# Altium schematic symbol library niceCircuits.SchLib: 19 symbols
Pins are listed as number, name and electrical type; pins without a type are passive.

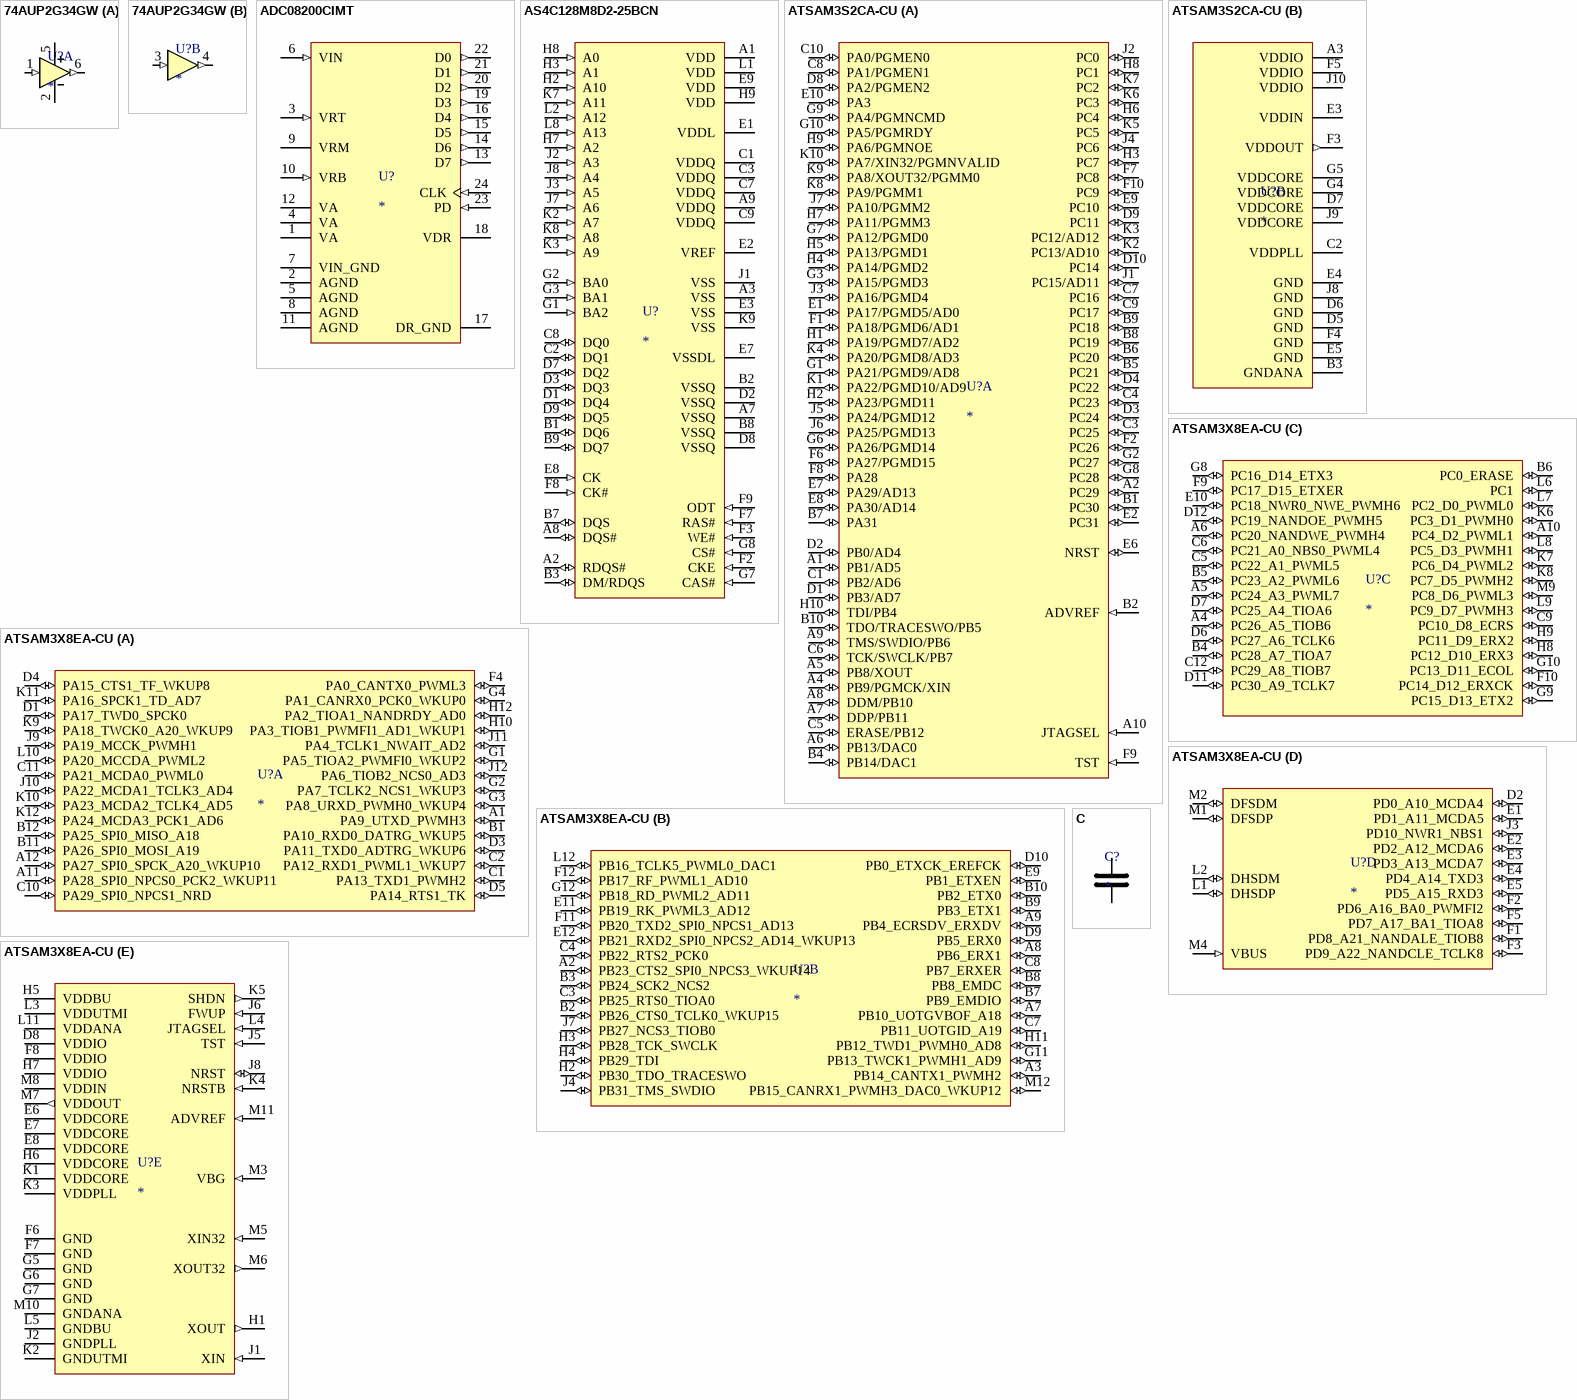
[diagram p0: symbols 74AUP2G34GW to C]

## 74AUP2G34GW
designator U?
Low-power dual buffer; Manufacturer 1: NXP; Manufacturer Part Number 1: 74AUP2G34GW; Supplier 1: Farnell; Supplier Part Number 1: 2164722
footprint SOT363_N (SO363, 6-Leads, Body 2.2x2.2mm (max), Pitch 0.65mm, IPC Medium Density)
part A pins: 1 1A (in), 2 GND (power), 5 VCC (power), 6 1Y (out)
part B pins: 3 2A (in), 4 2Y (out)

## ADC08200CIMT
designator U?
footprint National_TSSOP24_N (TSOP, 24-Leads, Body 7.9x4.5mm (max), Pitch 0.65mm, IPC Medium Density)
pins: 1 VA (power), 2 AGND (power), 3 VRT (in), 4 VA (power), 5 AGND (power), 6 VIN (in), 7 VIN_GND (power), 8 AGND (power), 9 VRM, 10 VRB (in), 11 AGND (power), 12 VA (power), 13 D7 (out), 14 D6 (out), 15 D5 (out), 16 D4 (out), 17 DR_GND (power), 18 VDR (power), 19 D3 (out), 20 D2 (out), 21 D1 (out), 22 D0 (out), 23 PD (in), 24 CLK (in)

## AS4C128M8D2-25BCN
designator U?
footprint Alliance_FBGA60 (BGA, 60-Leads, Body 8.00x10.00mmx1.20mm, Pitch 0.80mm)
pins: A1 VDD (power), A2 RDQS# (io), A3 VSS (power), A7 VSSQ (power), A8 DQS# (io), A9 VDDQ (power), B1 DQ6 (io), B2 VSSQ (power), B3 DM/RDQS (io), B7 DQS (io), B8 VSSQ (power), B9 DQ7 (io), C1 VDDQ (power), C2 DQ1 (io), C3 VDDQ (power), C7 VDDQ (power), C8 DQ0 (io), C9 VDDQ (power), D1 DQ4 (io), D2 VSSQ (power), D3 DQ3 (io), D7 DQ2 (io), D8 VSSQ (power), D9 DQ5 (io), E1 VDDL (power), E2 VREF (power), E3 VSS (power), E7 VSSDL (power), E8 CK (in), E9 VDD (power), F2 CKE (in), F3 WE# (in), F7 RAS# (in), F8 CK# (in), F9 ODT (in), G1 BA2 (in), G2 BA0 (in), G3 BA1 (in), G7 CAS# (in), G8 CS# (in), H2 A10 (in), H3 A1 (in), H7 A2 (in), H8 A0 (in), H9 VDD (power), J1 VSS (power), J2 A3 (in), J3 A5 (in), J7 A6 (in), J8 A4 (in), K2 A7 (in), K3 A9 (in), K7 A11 (in), K8 A8 (in), K9 VSS (power), L1 VDD (power), L2 A12 (in), L8 A13 (in)

## ATSAM3S2CA-CU
designator U?
part A pins: A1 PB1/AD5 (io), A2 PC29 (io), A4 PB9/PGMCK/XIN (io), A5 PB8/XOUT (io), A6 PB13/DAC0 (io), A7 DDP/PB11 (io), A8 DDM/PB10 (io), A9 TMS/SWDIO/PB6 (io), A10 JTAGSEL (in), B1 PC30 (io), B2 ADVREF (in), B4 PB14/DAC1 (io), B5 PC21 (io), B6 PC20 (io), B7 PA31 (io), B8 PC19 (io), B9 PC18 (io), B10 TDO/TRACESWO/PB5 (io), C1 PB2/AD6 (io), C3 PC25 (io), C4 PC23 (io), C5 ERASE/PB12 (io), C6 TCK/SWCLK/PB7 (io), C7 PC16 (io), C8 PA1/PGMEN1 (io), C9 PC17 (io), C10 PA0/PGMEN0 (io), D1 PB3/AD7 (io), D2 PB0/AD4 (io), D3 PC24 (io), D4 PC22 (io), D8 PA2/PGMEN2 (io), D9 PC11 (io), D10 PC14 (io), E1 PA17/PGMD5/AD0 (io), E2 PC31 (io), E6 NRST (io), E7 PA29/AD13 (io), E8 PA30/AD14 (io), E9 PC10 (io), E10 PA3 (io), F1 PA18/PGMD6/AD1 (io), F2 PC26 (io), F6 PA27/PGMD15 (io), F7 PC8 (io), F8 PA28 (io), F9 TST (in), F10 PC9 (io), G1 PA21/PGMD9/AD8 (io), G2 PC27 (io), G3 PA15/PGMD3 (io), G6 PA26/PGMD14 (io), G7 PA12/PGMD0 (io), G8 PC28 (io), G9 PA4/PGMNCMD (io), G10 PA5/PGMRDY (io), H1 PA19/PGMD7/AD2 (io), H2 PA23/PGMD11 (io), H3 PC7 (io), H4 PA14/PGMD2 (io), H5 PA13/PGMD1 (io), H6 PC4 (io), H7 PA11/PGMM3 (io), H8 PC1 (io), H9 PA6/PGMNOE (io), H10 TDI/PB4 (io), J1 PC15/AD11 (io), J2 PC0 (io), J3 PA16/PGMD4 (io), J4 PC6 (io), J5 PA24/PGMD12 (io), J6 PA25/PGMD13 (io), J7 PA10/PGMM2 (io), K1 PA22/PGMD10/AD9 (io), K2 PC13/AD10 (io), K3 PC12/AD12 (io), K4 PA20/PGMD8/AD3 (io), K5 PC5 (io), K6 PC3 (io), K7 PC2 (io), K8 PA9/PGMM1 (io), K9 PA8/XOUT32/PGMM0 (io), K10 PA7/XIN32/PGMNVALID (io)
part B pins: A3 VDDIO (power), B3 GNDANA (power), C2 VDDPLL (power), D5 GND (power), D6 GND (power), D7 VDDCORE (power), E3 VDDIN (power), E4 GND (power), E5 GND (power), F3 VDDOUT (out), F4 GND (power), F5 VDDIO (power), G4 VDDCORE (power), G5 VDDCORE (power), J8 GND (power), J9 VDDCORE (power), J10 VDDIO (power)

## ATSAM3X8EA-CU
designator U?
footprint Atmel_LFBGA144_M (BGA, 144-Leads, Body 10.0x10.0mm,  Pitch 0.80mm)
part A pins: A1 PA9_UTXD_PWMH3 (io), A11 PA28_SPI0_NPCS0_PCK2_WKUP11 (io), A12 PA27_SPI0_SPCK_A20_WKUP10 (io), B1 PA10_RXD0_DATRG_WKUP5 (io), B11 PA26_SPI0_MOSI_A19 (io), B12 PA25_SPI0_MISO_A18 (io), C1 PA13_TXD1_PWMH2 (io), C2 PA12_RXD1_PWML1_WKUP7 (io), C10 PA29_SPI0_NPCS1_NRD (io), C11 PA21_MCDA0_PWML0 (io), D1 PA17_TWD0_SPCK0 (io), D3 PA11_TXD0_ADTRG_WKUP6 (io), D4 PA15_CTS1_TF_WKUP8 (io), D5 PA14_RTS1_TK (io), F4 PA0_CANTX0_PWML3 (io), G1 PA5_TIOA2_PWMFI0_WKUP2 (io), G2 PA7_TCLK2_NCS1_WKUP3 (io), G3 PA8_URXD_PWMH0_WKUP4 (io), G4 PA1_CANRX0_PCK0_WKUP0 (io), H10 PA3_TIOB1_PWMFI1_AD1_WKUP1 (io), H12 PA2_TIOA1_NANDRDY_AD0 (io), J9 PA19_MCCK_PWMH1 (io), J10 PA22_MCDA1_TCLK3_AD4 (io), J11 PA4_TCLK1_NWAIT_AD2 (io), J12 PA6_TIOB2_NCS0_AD3 (io), K9 PA18_TWCK0_A20_WKUP9 (io), K10 PA23_MCDA2_TCLK4_AD5 (io), K11 PA16_SPCK1_TD_AD7 (io), K12 PA24_MCDA3_PCK1_AD6 (io), L10 PA20_MCCDA_PWML2 (io)
part B pins: A2 PB23_CTS2_SPI0_NPCS3_WKUP14 (io), A3 PB14_CANTX1_PWMH2 (io), A7 PB10_UOTGVBOF_A18 (io), A8 PB6_ERX1 (io), A9 PB4_ECRSDV_ERXDV (io), B2 PB26_CTS0_TCLK0_WKUP15 (io), B3 PB24_SCK2_NCS2 (io), B7 PB9_EMDIO (io), B8 PB8_EMDC (io), B9 PB3_ETX1 (io), B10 PB2_ETX0 (io), C3 PB25_RTS0_TIOA0 (io), C4 PB22_RTS2_PCK0 (io), C7 PB11_UOTGID_A19 (io), C8 PB7_ERXER (io), D9 PB5_ERX0 (io), D10 PB0_ETXCK_EREFCK (io), E9 PB1_ETXEN (io), E11 PB19_RK_PWML3_AD12 (io), E12 PB21_RXD2_SPI0_NPCS2_AD14_WKUP13 (io), F11 PB20_TXD2_SPI0_NPCS1_AD13 (io), F12 PB17_RF_PWML1_AD10 (io), G11 PB13_TWCK1_PWMH1_AD9 (io), G12 PB18_RD_PWML2_AD11 (io), H2 PB30_TDO_TRACESWO (io), H3 PB28_TCK_SWCLK (io), H4 PB29_TDI (io), H11 PB12_TWD1_PWMH0_AD8 (io), J4 PB31_TMS_SWDIO (io), J7 PB27_NCS3_TIOB0 (io), L12 PB16_TCLK5_PWML0_DAC1 (io), M12 PB15_CANRX1_PWMH3_DAC0_WKUP12 (io)
part C pins: A4 PC26_A5_TIOB6 (io), A5 PC24_A3_PWML7 (io), A6 PC20_NANDWE_PWMH4 (io), A10 PC4_D2_PWML1 (io), B4 PC28_A7_TIOA7 (io), B5 PC23_A2_PWML6 (io), B6 PC0_ERASE (io), C5 PC22_A1_PWML5 (io), C6 PC21_A0_NBS0_PWML4 (io), C9 PC10_D8_ECRS (io), C12 PC29_A8_TIOB7 (io), D6 PC27_A6_TCLK6 (io), D7 PC25_A4_TIOA6 (io), D11 PC30_A9_TCLK7 (io), D12 PC19_NANDOE_PWMH5 (io), E10 PC18_NWR0_NWE_PWMH6 (io), F9 PC17_D15_ETXER (io), F10 PC14_D12_ERXCK (io), G8 PC16_D14_ETX3 (io), G9 PC15_D13_ETX2 (io), G10 PC13_D11_ECOL (io), H8 PC12_D10_ERX3 (io), H9 PC11_D9_ERX2 (io), K6 PC3_D1_PWMH0 (io), K7 PC6_D4_PWML2 (io), K8 PC7_D5_PWMH2 (io), L6 PC1 (io), L7 PC2_D0_PWML0 (io), L8 PC5_D3_PWMH1 (io), L9 PC9_D7_PWMH3 (io), M9 PC8_D6_PWML3 (io)
part D pins: D2 PD0_A10_MCDA4 (io), E1 PD1_A11_MCDA5 (io), E2 PD2_A12_MCDA6 (io), E3 PD3_A13_MCDA7 (io), E4 PD4_A14_TXD3 (io), E5 PD5_A15_RXD3 (io), F1 PD8_A21_NANDALE_TIOB8 (io), F2 PD6_A16_BA0_PWMFI2 (io), F3 PD9_A22_NANDCLE_TCLK8 (io), F5 PD7_A17_BA1_TIOA8 (io), J3 PD10_NWR1_NBS1 (io), L1 DHSDP (io), L2 DHSDM (io), M1 DFSDP (io), M2 DFSDM (io), M4 VBUS (in)
part E pins: D8 VDDIO (power), E6 VDDCORE (power), E7 VDDCORE (power), E8 VDDCORE (power), F6 GND (power), F7 GND (power), F8 VDDIO (power), G5 GND (power), G6 GND (power), G7 GND (power), H1 XOUT (out), H5 VDDBU (power), H6 VDDCORE (power), H7 VDDIO (power), J1 XIN (in), J2 GNDPLL (power), J5 TST (in), J6 FWUP (in), J8 NRST (io), K1 VDDCORE (power), K2 GNDUTMI (power), K3 VDDPLL (power), K4 NRSTB (in), K5 SHDN (out), L3 VDDUTMI (power), L4 JTAGSEL (in), L5 GNDBU (power), L11 VDDANA (power), M3 VBG (in), M5 XIN32 (in), M6 XOUT32 (out), M7 VDDOUT (out), M8 VDDIN (power), M10 GNDANA (power), M11 ADVREF (in)

## C
designator C?
footprint C0402_L (Chip Capacitor, 2-Leads, Body 1.00x0.50mm, IPC High Density)
footprint C0402_M (Chip Capacitor, 2-Leads, Body 1.00x0.50mm, IPC Low Density)
footprint C0402_N (Chip Capacitor, 2-Leads, Body 1.00x0.50mm, IPC Medium Density)
footprint C0805_L (Chip Capacitor, 2-Leads, Body 2.00x1.25mm, IPC High Density)
footprint C0805_N (Chip Capacitor, 2-Leads, Body 2.00x1.25mm, IPC Medium Density)
footprint C0805_M (Chip Capacitor, 2-Leads, Body 2.00x1.25mm, IPC Low Density)
pins: 1, 2

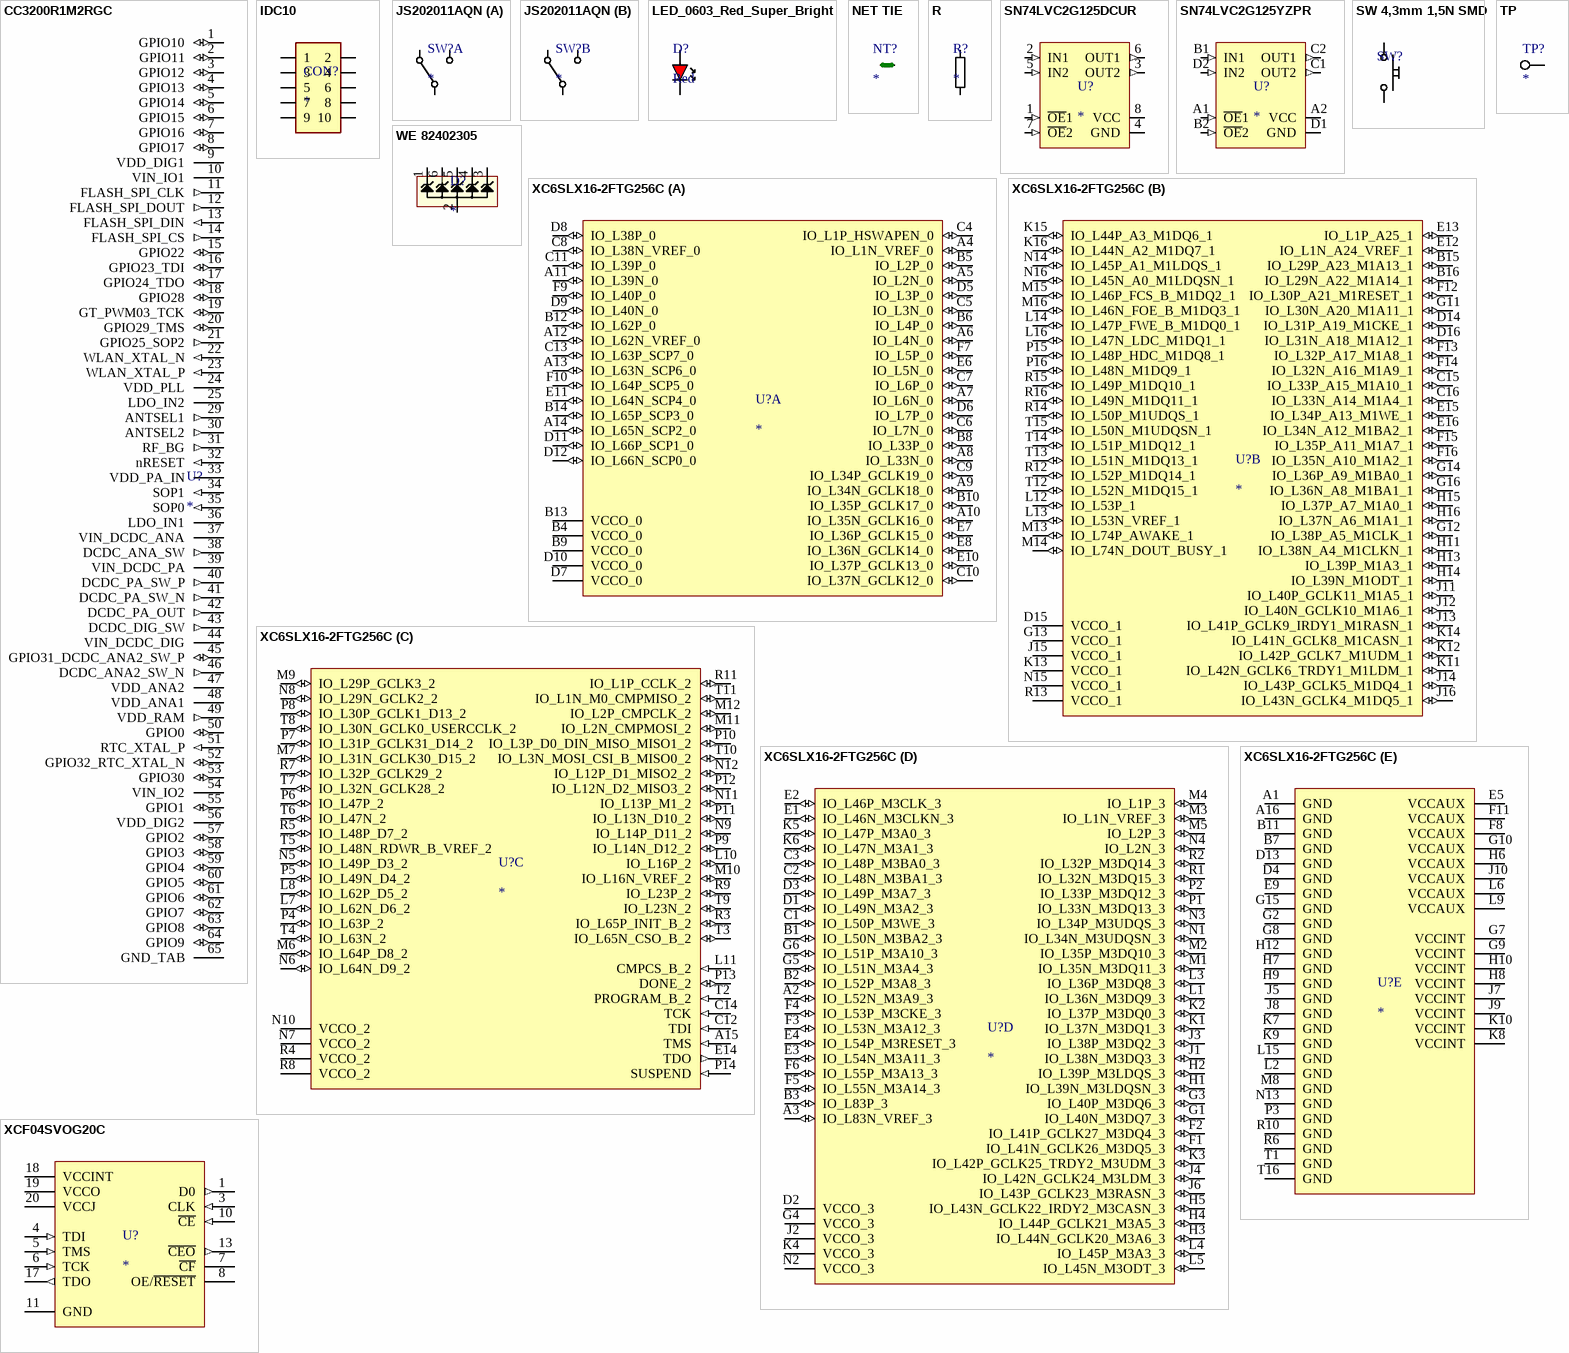
[diagram p1: symbols CC3200R1M2RGC to XCF04SVOG20C]

## CC3200R1M2RGC
designator U?
pins: 1 GPIO10 (io), 2 GPIO11 (io), 3 GPIO12 (io), 4 GPIO13 (io), 5 GPIO14 (io), 6 GPIO15 (io), 7 GPIO16 (io), 8 GPIO17 (io), 9 VDD_DIG1 (power), 10 VIN_IO1 (power), 11 FLASH_SPI_CLK (out), 12 FLASH_SPI_DOUT (out), 13 FLASH_SPI_DIN (in), 14 FLASH_SPI_CS (out), 15 GPIO22 (io), 16 GPIO23_TDI (io), 17 GPIO24_TDO (io), 18 GPIO28 (io), 19 GT_PWM03_TCK (io), 20 GPIO29_TMS (io), 21 GPIO25_SOP2 (out), 22 WLAN_XTAL_N (in), 23 WLAN_XTAL_P (in), 24 VDD_PLL (power), 25 LDO_IN2 (power), 29 ANTSEL1 (out), 30 ANTSEL2 (out), 31 RF_BG (out), 32 nRESET (in), 33 VDD_PA_IN (power), 34 SOP1 (in), 35 SOP0 (in), 36 LDO_IN1 (power), 37 VIN_DCDC_ANA (power), 38 DCDC_ANA_SW (out), 39 VIN_DCDC_PA (power), 40 DCDC_PA_SW_P (out), 41 DCDC_PA_SW_N (out), 42 DCDC_PA_OUT (out), 43 DCDC_DIG_SW (out), 44 VIN_DCDC_DIG (power), 45 GPIO31_DCDC_ANA2_SW_P (io), 46 DCDC_ANA2_SW_N (out), 47 VDD_ANA2 (power), 48 VDD_ANA1 (power), 49 VDD_RAM (out), 50 GPIO0 (io), 51 RTC_XTAL_P (in), 52 GPIO32_RTC_XTAL_N (io), 53 GPIO30 (io), 54 VIN_IO2 (power), 55 GPIO1 (io), 56 VDD_DIG2 (power), 57 GPIO2 (io), 58 GPIO3 (io), 59 GPIO4 (io), 60 GPIO5 (io), 61 GPIO6 (io), 62 GPIO7 (io), 63 GPIO8 (io), 64 GPIO9 (io), 65 GND_TAB (power)

## IDC10
designator CON?
Supplier 1: TME; Supplier Part Number 1: T821-1-10-S1; Type: Zlacze
footprint IDC10
pins: 1, 2, 3, 4, 5, 6, 7, 8, 9, 10

## JS202011AQN
designator SW?
footprint JS202011AQN
part A pins: COM1, NC1, NO1
part B pins: COM2, NC2, NO2

## LED_0603_Red_Super_Bright
designator D?, comment Red
Generic 0603 Super Bright Red LED
footprint LED0603_red_N (LED Red Body 1.6x0.8mm, IPC Medium Density)
pins: 1, 2

## NET TIE
designator NT?  (net tie, no BOM)
footprint NET_TIE_5MIL_2 (5mil net tie with 2 pins)
pins: 1, 2

## R
designator R?
footprint R0402_L (Chip Resistor, 2-Leads, Body 1.05x0.54mm, IPC High Density)
footprint R0402_M (Chip Resistor, 2-Leads, Body 1.05x0.54mm, IPC Low Density)
footprint R0402_N (Chip Resistor, 2-Leads, Body 1.05x0.54mm, IPC Medium Density)
pins: 1, 2

## SN74LVC2G125DCUR
designator U?
pins: 1 ~{OE}1 (in), 2 IN1 (in), 3 OUT2 (out), 4 GND (power), 5 IN2 (in), 6 OUT1 (out), 7 ~{OE}2 (in), 8 VCC (power)

## SN74LVC2G125YZPR
designator U?
footprint TI_YZP8 (BGA, 8-Leads, Body 1.9x0.9mm,  Pitch 0.50mm)
pins: A1 ~{OE}1 (in), A2 VCC (power), B1 IN1 (in), B2 ~{OE}2 (in), C1 OUT2 (out), C2 OUT1 (out), D1 GND (power), D2 IN2 (in)

## SW 4,3mm 1,5N SMD
designator SW?  (value not drawn)
Microswitch 4,3mm; Manufacturer Part Number 1: KSC721G LFS; Manufacturer 1: C&K Components; Supplier 1: Mouser; Supplier Part Number 1: 611-KSC721GLFS; Type: Inne
footprint SW4,3SMD (Przycisk 4,3mm wysokości)
pins: 1, 2

## TP
designator TP?
footprint TP_20mil_SMT (20mil SMT testpoint)
pins: 1

## WE 82402305
designator D?
TVS Diode WE-TVS-Standard, VRWM=5.0V; Manufacturer 1: Wurth Elektronik; Manufacturer Part Number 1: 82402305; Reverse Stand Off Voltage: 5V; ComponentLink2Description: Datasheet; ComponentLink2URL: http://katalog.we-online.de/kataloge/eisos/media/pdf/82402305.pdf
footprint SOT23-6_N (Footprint not found)
pins: 1 C1, 2 A1, 3 C2, 4 C3, 5 A2, 6 C4

## XC6SLX16-2FTG256C
designator U?
footprint Xilinx_FT256 (BGA, 256-Leads, Body 17.00x17.00mmx1.55mm, Pitch 1.00mm)
part A pins: A4 IO_L1N_VREF_0 (io), A5 IO_L2N_0 (io), A6 IO_L4N_0 (io), A7 IO_L6N_0 (io), A8 IO_L33N_0 (io), A9 IO_L34N_GCLK18_0 (io), A10 IO_L35N_GCLK16_0 (io), A11 IO_L39N_0 (io), A12 IO_L62N_VREF_0 (io), A13 IO_L63N_SCP6_0 (io), A14 IO_L65N_SCP2_0 (io), B4 VCCO_0 (power), B5 IO_L2P_0 (io), B6 IO_L4P_0 (io), B8 IO_L33P_0 (io), B9 VCCO_0 (power), B10 IO_L35P_GCLK17_0 (io), B12 IO_L62P_0 (io), B13 VCCO_0 (power), B14 IO_L65P_SCP3_0 (io), C4 IO_L1P_HSWAPEN_0 (io), C5 IO_L3N_0 (io), C6 IO_L7N_0 (io), C7 IO_L6P_0 (io), C8 IO_L38N_VREF_0 (io), C9 IO_L34P_GCLK19_0 (io), C10 IO_L37N_GCLK12_0 (io), C11 IO_L39P_0 (io), C13 IO_L63P_SCP7_0 (io), D5 IO_L3P_0 (io), D6 IO_L7P_0 (io), D7 VCCO_0 (power), D8 IO_L38P_0 (io), D9 IO_L40N_0 (io), D10 VCCO_0 (power), D11 IO_L66P_SCP1_0 (io), D12 IO_L66N_SCP0_0 (io), E6 IO_L5N_0 (io), E7 IO_L36P_GCLK15_0 (io), E8 IO_L36N_GCLK14_0 (io), E10 IO_L37P_GCLK13_0 (io), E11 IO_L64N_SCP4_0 (io), F7 IO_L5P_0 (io), F9 IO_L40P_0 (io), F10 IO_L64P_SCP5_0 (io)
part B pins: B15 IO_L29P_A23_M1A13_1 (io), B16 IO_L29N_A22_M1A14_1 (io), C15 IO_L33P_A15_M1A10_1 (io), C16 IO_L33N_A14_M1A4_1 (io), D14 IO_L31P_A19_M1CKE_1 (io), D15 VCCO_1 (power), D16 IO_L31N_A18_M1A12_1 (io), E12 IO_L1N_A24_VREF_1 (io), E13 IO_L1P_A25_1 (io), E15 IO_L34P_A13_M1WE_1 (io), E16 IO_L34N_A12_M1BA2_1 (io), F12 IO_L30P_A21_M1RESET_1 (io), F13 IO_L32P_A17_M1A8_1 (io), F14 IO_L32N_A16_M1A9_1 (io), F15 IO_L35P_A11_M1A7_1 (io), F16 IO_L35N_A10_M1A2_1 (io), G11 IO_L30N_A20_M1A11_1 (io), G12 IO_L38P_A5_M1CLK_1 (io), G13 VCCO_1 (power), G14 IO_L36P_A9_M1BA0_1 (io), G16 IO_L36N_A8_M1BA1_1 (io), H11 IO_L38N_A4_M1CLKN_1 (io), H13 IO_L39P_M1A3_1 (io), H14 IO_L39N_M1ODT_1 (io), H15 IO_L37P_A7_M1A0_1 (io), H16 IO_L37N_A6_M1A1_1 (io), J11 IO_L40P_GCLK11_M1A5_1 (io), J12 IO_L40N_GCLK10_M1A6_1 (io), J13 IO_L41P_GCLK9_IRDY1_M1RASN_1 (io), J14 IO_L43P_GCLK5_M1DQ4_1 (io), J15 VCCO_1 (power), J16 IO_L43N_GCLK4_M1DQ5_1 (io), K11 IO_L42N_GCLK6_TRDY1_M1LDM_1 (io), K12 IO_L42P_GCLK7_M1UDM_1 (io), K13 VCCO_1 (power), K14 IO_L41N_GCLK8_M1CASN_1 (io), K15 IO_L44P_A3_M1DQ6_1 (io), K16 IO_L44N_A2_M1DQ7_1 (io), L12 IO_L53P_1 (io), L13 IO_L53N_VREF_1 (io), L14 IO_L47P_FWE_B_M1DQ0_1 (io), L16 IO_L47N_LDC_M1DQ1_1 (io), M13 IO_L74P_AWAKE_1 (io), M14 IO_L74N_DOUT_BUSY_1 (io), M15 IO_L46P_FCS_B_M1DQ2_1 (io), M16 IO_L46N_FOE_B_M1DQ3_1 (io), N14 IO_L45P_A1_M1LDQS_1 (io), N15 VCCO_1 (power), N16 IO_L45N_A0_M1LDQSN_1 (io), P15 IO_L48P_HDC_M1DQ8_1 (io), P16 IO_L48N_M1DQ9_1 (io), R12 IO_L52P_M1DQ14_1 (io), R13 VCCO_1 (power), R14 IO_L50P_M1UDQS_1 (io), R15 IO_L49P_M1DQ10_1 (io), R16 IO_L49N_M1DQ11_1 (io), T12 IO_L52N_M1DQ15_1 (io), T13 IO_L51N_M1DQ13_1 (io), T14 IO_L51P_M1DQ12_1 (io), T15 IO_L50N_M1UDQSN_1 (io)
part C pins: A15 TMS (in), C12 TDI (in), C14 TCK (in), E14 TDO (out), L7 IO_L62N_D6_2 (io), L8 IO_L62P_D5_2 (io), L10 IO_L16P_2 (io), L11 CMPCS_B_2 (in), M6 IO_L64P_D8_2 (io), M7 IO_L31N_GCLK30_D15_2 (io), M9 IO_L29P_GCLK3_2 (io), M10 IO_L16N_VREF_2 (io), M11 IO_L2N_CMPMOSI_2 (io), M12 IO_L2P_CMPCLK_2 (io), N5 IO_L49P_D3_2 (io), N6 IO_L64N_D9_2 (io), N7 VCCO_2 (power), N8 IO_L29N_GCLK2_2 (io), N9 IO_L14P_D11_2 (io), N10 VCCO_2 (power), N11 IO_L13P_M1_2 (io), N12 IO_L12P_D1_MISO2_2 (io), P4 IO_L63P_2 (io), P5 IO_L49N_D4_2 (io), P6 IO_L47P_2 (io), P7 IO_L31P_GCLK31_D14_2 (io), P8 IO_L30P_GCLK1_D13_2 (io), P9 IO_L14N_D12_2 (io), P10 IO_L3P_D0_DIN_MISO_MISO1_2 (io), P11 IO_L13N_D10_2 (io), P12 IO_L12N_D2_MISO3_2 (io), P13 DONE_2 (io), P14 SUSPEND (in), R3 IO_L65P_INIT_B_2 (io), R4 VCCO_2 (power), R5 IO_L48P_D7_2 (io), R7 IO_L32P_GCLK29_2 (io), R8 VCCO_2 (power), R9 IO_L23P_2 (io), R11 IO_L1P_CCLK_2 (io), T2 PROGRAM_B_2 (in), T3 IO_L65N_CSO_B_2 (io), T4 IO_L63N_2 (io), T5 IO_L48N_RDWR_B_VREF_2 (io), T6 IO_L47N_2 (io), T7 IO_L32N_GCLK28_2 (io), T8 IO_L30N_GCLK0_USERCCLK_2 (io), T9 IO_L23N_2 (io), T10 IO_L3N_MOSI_CSI_B_MISO0_2 (io), T11 IO_L1N_M0_CMPMISO_2 (io)
part D pins: A2 IO_L52N_M3A9_3 (io), A3 IO_L83N_VREF_3 (io), B1 IO_L50N_M3BA2_3 (io), B2 IO_L52P_M3A8_3 (io), B3 IO_L83P_3 (io), C1 IO_L50P_M3WE_3 (io), C2 IO_L48N_M3BA1_3 (io), C3 IO_L48P_M3BA0_3 (io), D1 IO_L49N_M3A2_3 (io), D2 VCCO_3 (power), D3 IO_L49P_M3A7_3 (io), E1 IO_L46N_M3CLKN_3 (io), E2 IO_L46P_M3CLK_3 (io), E3 IO_L54N_M3A11_3 (io), E4 IO_L54P_M3RESET_3 (io), F1 IO_L41N_GCLK26_M3DQ5_3 (io), F2 IO_L41P_GCLK27_M3DQ4_3 (io), F3 IO_L53N_M3A12_3 (io), F4 IO_L53P_M3CKE_3 (io), F5 IO_L55N_M3A14_3 (io), F6 IO_L55P_M3A13_3 (io), G1 IO_L40N_M3DQ7_3 (io), G3 IO_L40P_M3DQ6_3 (io), G4 VCCO_3 (power), G5 IO_L51N_M3A4_3 (io), G6 IO_L51P_M3A10_3 (io), H1 IO_L39N_M3LDQSN_3 (io), H2 IO_L39P_M3LDQS_3 (io), H3 IO_L44N_GCLK20_M3A6_3 (io), H4 IO_L44P_GCLK21_M3A5_3 (io), H5 IO_L43N_GCLK22_IRDY2_M3CASN_3 (io), J1 IO_L38N_M3DQ3_3 (io), J2 VCCO_3 (power), J3 IO_L38P_M3DQ2_3 (io), J4 IO_L42N_GCLK24_M3LDM_3 (io), J6 IO_L43P_GCLK23_M3RASN_3 (io), K1 IO_L37N_M3DQ1_3 (io), K2 IO_L37P_M3DQ0_3 (io), K3 IO_L42P_GCLK25_TRDY2_M3UDM_3 (io), K4 VCCO_3 (power), K5 IO_L47P_M3A0_3 (io), K6 IO_L47N_M3A1_3 (io), L1 IO_L36N_M3DQ9_3 (io), L3 IO_L36P_M3DQ8_3 (io), L4 IO_L45P_M3A3_3 (io), L5 IO_L45N_M3ODT_3 (io), M1 IO_L35N_M3DQ11_3 (io), M2 IO_L35P_M3DQ10_3 (io), M3 IO_L1N_VREF_3 (io), M4 IO_L1P_3 (io), M5 IO_L2P_3 (io), N1 IO_L34N_M3UDQSN_3 (io), N2 VCCO_3 (power), N3 IO_L34P_M3UDQS_3 (io), N4 IO_L2N_3 (io), P1 IO_L33N_M3DQ13_3 (io), P2 IO_L33P_M3DQ12_3 (io), R1 IO_L32N_M3DQ15_3 (io), R2 IO_L32P_M3DQ14_3 (io)
part E pins: A1 GND (power), A16 GND (power), B7 GND (power), B11 GND (power), D4 GND (power), D13 GND (power), E5 VCCAUX (power), E9 GND (power), F8 VCCAUX (power), F11 VCCAUX (power), G2 GND (power), G7 VCCINT (power), G8 GND (power), G9 VCCINT (power), G10 VCCAUX (power), G15 GND (power), H6 VCCAUX (power), H7 GND (power), H8 VCCINT (power), H9 GND (power), H10 VCCINT (power), H12 GND (power), J5 GND (power), J7 VCCINT (power), J8 GND (power), J9 VCCINT (power), J10 VCCAUX (power), K7 GND (power), K8 VCCINT (power), K9 GND (power), K10 VCCINT (power), L2 GND (power), L6 VCCAUX (power), L9 VCCAUX (power), L15 GND (power), M8 GND (power), N13 GND (power), P3 GND (power), R6 GND (power), R10 GND (power), T1 GND (power), T16 GND (power)

## XCF04SVOG20C
designator U?
Xilinx Platform Flash configuration memory 4Mbit
footprint Xilinx_TSOP20_N (TSOP, 20-Leads, Body 6.6x4.5mm (max), Pitch 0.65mm, IPC Medium Density)
pins: 1 D0 (out), 3 CLK (in), 4 TDI (in), 5 TMS (in), 6 TCK (in), 7 ~{CF} (oc), 8 OE/~{RESET} (oc), 10 ~{CE} (in), 11 GND (power), 13 ~{CEO} (out), 17 TDO (out), 18 VCCINT (power), 19 VCCO (power), 20 VCCJ (power)